# EAGLE library part X15 (library connectors)
Connector 15 pins
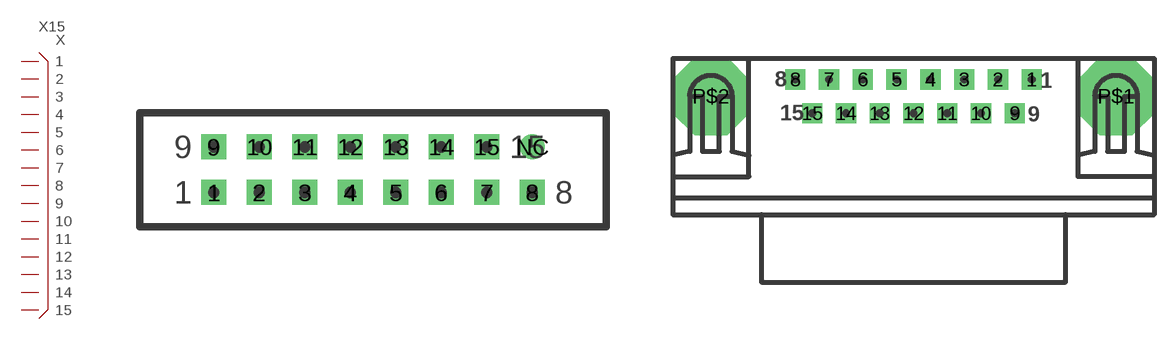
[diagram p62: symbol with the pads of X15-DSUBRIBBON; footprints X15-DSUBRIBBON, X15-DSUBFEMALE1]

Designator prefix X

## X15-DRIB  [X15-DSUBRIBBON]
1  1
2  2
3  3
4  4
5  5
6  6
7  7
8  8
9  9
10  10
11  11
12  12
13  13
14  14
15  15

## X15-DFEM  [X15-DSUBFEMALE1]
Pads as for X15-DSUBRIBBON

## X15-DMAL  [X15-DSUBMALE1]
Pads as for X15-DSUBRIBBON

## Footprint X15-DSUBRIBBON (pad centres in mm)
Connector 15 pins, reduced pads, for D-Sub connections with ribbon cable
drill 0.889 pad 1.397 square: 1 -8.89,-1.27; 2 -6.35,-1.27; 3 -3.81,-1.27; 4 -1.27,-1.27; 5 1.27,-1.27; 6 3.81,-1.27; 7 6.35,-1.27; 8 8.89,-1.27; 9 -8.89,1.27; 10 -6.35,1.27; 11 -3.81,1.27; 12 -1.27,1.27; 13 1.27,1.27; 14 3.81,1.27; 15 6.35,1.27
drill 0.889 pad 1.397 round: NC 8.89,1.27

## Footprint X15-DSUBFEMALE1 (pad centres in mm)
D-SUB connector 15 pins, female American size, with shield soldering pads
drill 0.889 pad 1.651 square: 1 9.625,1.375; 2 6.875,1.375; 3 4.125,1.375; 4 1.375,1.375; 5 -1.375,1.375; 6 -4.125,1.375; 7 -6.875,1.375; 8 -9.625,1.375; 9 8.25,-1.375; 10 5.5,-1.375; 11 2.75,-1.375; 12 0,-1.375; 13 -2.75,-1.375; 14 -5.5,-1.375; 15 -8.25,-1.375
drill 3.175 pad 6.35 octagon: P$1 16.5,0; P$2 -16.5,0

## Footprint X15-DSUBMALE1 (pad centres in mm)
D-SUB connector 15 pins, male American size, with shield soldering pads
drill 0.889 pad 1.651 square: 1 -9.625,1.375; 2 -6.875,1.375; 3 -4.125,1.375; 4 -1.375,1.375; 5 1.375,1.375; 6 4.125,1.375; 7 6.875,1.375; 8 9.625,1.375; 9 -8.25,-1.375; 10 -5.5,-1.375; 11 -2.75,-1.375; 12 0,-1.375; 13 2.75,-1.375; 14 5.5,-1.375; 15 8.25,-1.375
drill 3.175 pad 6.35 octagon: P$1 16.5,0; P$2 -16.5,0